# Altium schematic symbol library WS-TASU.SchLib: 11 symbols
Pins are listed as number, name and electrical type; pins without a type are passive.

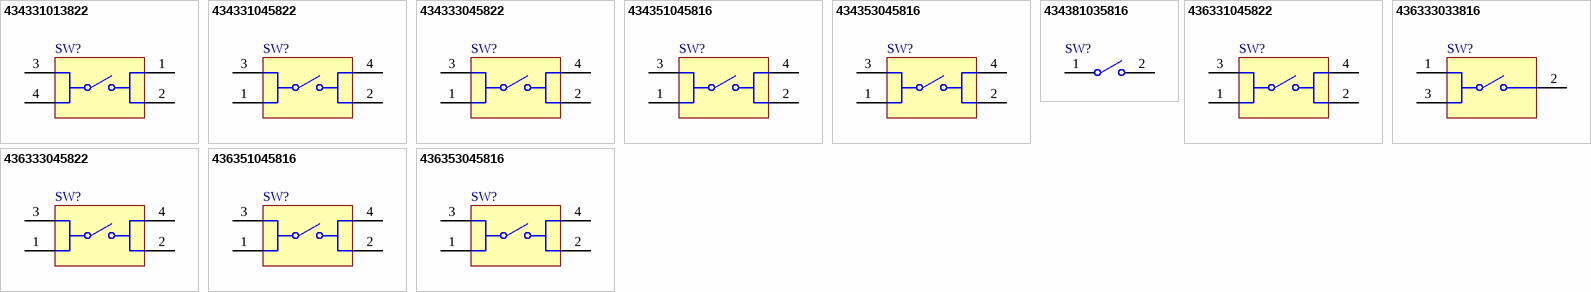
[diagram p0: symbols 434331013822 to 436353045816]

## 434331013822
designator SW?  (value not drawn)
WS-TASU SMT Tact Switch 3.5x2.9mm side push, SPST-NO, H1.35mm, White, 220g; Manufacturer: Wurth Elektronik; Electrical Life: 100000Cycles; Washable: No; Manufacturer Part Number: 434331013822; Category: Tact Switch; Match Code: WS-TASU; ComponentLink1Description: Website Link; ComponentLink1URL: https://www.we-online.com; ComponentLink2Description: Datasheet Link; ComponentLink2URL: https://www.we-online.com/components/products/datasheet/434331013822; Mount: Surface Mount; Operating Temperature Min: -40degC; Operating Temperature Max: 85degC; Packaging: Tape and Reel; Length: 3.5mm; Width: 2.9mm; Height: 1.35mm; Actuator Color: White; Circuit: SPST-NO; Operation Force: 220g
footprint 434331013822
pins: 1, 2, 3, 4

## 434331045822
designator SW?  (value not drawn)
WS-TASU SMT Tact Switch 4.7x3.5mm side push, SPST-NO, H1.65mm, Black, 220g; Manufacturer: Wurth Elektronik; Electrical Life: 100000Cycles; Washable: No; Manufacturer Part Number: 434331045822; Category: Tact Switch; Match Code: WS-TASU; ComponentLink1Description: Website Link; ComponentLink1URL: https://www.we-online.com; ComponentLink2Description: Datasheet Link; ComponentLink2URL: https://www.we-online.com/components/products/datasheet/434331045822; Mount: Surface Mount; Operating Temperature Min: -40degC; Operating Temperature Max: 85degC; Packaging: Tape and Reel; Length: 4.7mm; Width: 3.5mm; Height: 1.65mm; Actuator Color: Black; Circuit: SPST-NO; Operation Force: 220g
footprint 434331045822
pins: 1, 2, 3, 4

## 434333045822
designator SW?  (value not drawn)
WS-TASU J-Bend SMT Tact Switch 4.7x3.5mm side push, SPST-NO, H1.65mm, Black, 220g; Manufacturer: Wurth Elektronik; Electrical Life: 100000Cycles; Washable: No; Manufacturer Part Number: 434333045822; Category: Tact Switch; Match Code: WS-TASU; ComponentLink1Description: Website Link; ComponentLink1URL: https://www.we-online.com; ComponentLink2Description: Datasheet Link; ComponentLink2URL: https://www.we-online.com/components/products/datasheet/434333045822; Mount: Surface Mount; Operating Temperature Min: -40degC; Operating Temperature Max: 85degC; Packaging: Tape and Reel; Length: 4.7mm; Width: 3.5mm; Height: 1.65mm; Actuator Color: Black; Circuit: SPST-NO; Operation Force: 220g
footprint 434333045822
pins: 1, 2, 3, 4

## 434351045816
designator SW?  (value not drawn)
WS-TASU SMT Tact Switch 4.7x3.5mm side push, SPST-NO, H1.65mm, White, 160g; Manufacturer: Wurth Elektronik; Electrical Life: 200000Cycles; Washable: No; Manufacturer Part Number: 434351045816; Category: Tact Switch; Match Code: WS-TASU; ComponentLink1Description: Website Link; ComponentLink1URL: https://www.we-online.com; ComponentLink2Description: Datasheet Link; ComponentLink2URL: https://www.we-online.com/components/products/datasheet/434351045816; Mount: Surface Mount; Operating Temperature Min: -40degC; Operating Temperature Max: 85degC; Packaging: Tape and Reel; Length: 4.7mm; Width: 3.5mm; Height: 1.65mm; Actuator Color: White; Circuit: SPST-NO; Operation Force: 160g
footprint 434351045816
pins: 1, 2, 3, 4

## 434353045816
designator SW?  (value not drawn)
WS-TASU J-Bend SMT Tact Switch 4.7x3.5mm side push, SPST-NO, H1.65mm, White, 160g; Manufacturer: Wurth Elektronik; Electrical Life: 200000Cycles; Washable: No; Manufacturer Part Number: 434353045816; Category: Tact Switch; Match Code: WS-TASU; ComponentLink1Description: Website Link; ComponentLink1URL: https://www.we-online.com; ComponentLink2Description: Datasheet Link; ComponentLink2URL: https://www.we-online.com/components/products/datasheet/434353045816; Mount: Surface Mount; Operating Temperature Min: -40degC; Operating Temperature Max: 85degC; Packaging: Tape and Reel; Length: 4.7mm; Width: 3.5mm; Height: 1.65mm; Actuator Color: White; Circuit: SPST-NO; Operation Force: 160g
footprint 434353045816
pins: 1, 2, 3, 4

## 434381035816
designator SW?  (value not drawn)
WS-TASU SMT Tact Switch 6.2x3mm side push, SPST-NO, H3.5mm, Blue, 160g; Manufacturer: Wurth Elektronik; Electrical Life: 1000000Cycles; Washable: No; Manufacturer Part Number: 434381035816; Category: Tact Switch; Match Code: WS-TASU; ComponentLink1Description: Website Link; ComponentLink1URL: https://www.we-online.com; ComponentLink2Description: Datasheet Link; ComponentLink2URL: https://www.we-online.com/components/products/datasheet/434381035816; Mount: Surface Mount; Operating Temperature Min: -40degC; Operating Temperature Max: 85degC; Packaging: Tape and Reel; Length: 6.2mm; Width: 3mm; Height: 3.5mm; Actuator Color: Blue; Circuit: SPST-NO; Operation Force: 160g
footprint 434381035816
pins: 1, 2

## 436331045822
designator SW?  (value not drawn)
WS-TASU SMT Tact Switch with Boss Design 4.7x3.5mm side push, SPST-NO, H1.65mm, Black, 220g; Manufacturer: Wurth Elektronik; Electrical Life: 100000Cycles; Washable: No; Manufacturer Part Number: 436331045822; Category: Tact Switch; Match Code: WS-TASU; ComponentLink1Description: Website Link; ComponentLink1URL: https://www.we-online.com; ComponentLink2Description: Datasheet Link; ComponentLink2URL: https://www.we-online.com/components/products/datasheet/436331045822; Mount: Surface Mount; Operating Temperature Min: -40degC; Operating Temperature Max: 85degC; Packaging: Tape and Reel; Length: 4.7mm; Width: 3.5mm; Height: 1.65mm; Actuator Color: Black; Circuit: SPST-NO; Operation Force: 220g
footprint 436331045822
pins: 1, 2, 3, 4

## 436333033816
designator SW?  (value not drawn)
WS-TASU J-Bend SMT Tact Switch with Boss Design 4.5 x 3.4mm side push, SPST-NO, H3.3mm, Black, 160g; Manufacturer: Wurth Elektronik; Electrical Life: 100000Cycles; Washable: No; Manufacturer Part Number: 436333033816; Category: Tact Switch; Match Code: WS-TASU; ComponentLink1Description: Website Link; ComponentLink1URL: https://www.we-online.com; ComponentLink2Description: Datasheet Link; ComponentLink2URL: https://www.we-online.com/components/products/datasheet/436333033816; Mount: Surface Mount; Operating Temperature Min: -40degC; Operating Temperature Max: 85degC; Packaging: Tape and Reel; Length: 4.5mm; Width: 3.4mm; Height: 3.3mm; Actuator Color: Black; Circuit: SPST-NO; Operation Force: 160g
footprint 436333033816
pins: 1, 2, 3

## 436333045822
designator SW?  (value not drawn)
WS-TASU J-Bend SMT Tact Switch with Boss Design 4.7x3.5mm side push, SPST-NO, H1.65mm, Black, 220g; Manufacturer: Wurth Elektronik; Electrical Life: 100000Cycles; Washable: No; Manufacturer Part Number: 436333045822; Category: Tact Switch; Match Code: WS-TASU; ComponentLink1Description: Website Link; ComponentLink1URL: https://www.we-online.com; ComponentLink2Description: Datasheet Link; ComponentLink2URL: https://www.we-online.com/components/products/datasheet/436333045822; Mount: Surface Mount; Operating Temperature Min: -40degC; Operating Temperature Max: 85degC; Packaging: Tape and Reel; Length: 4.7mm; Width: 3.5mm; Height: 1.65mm; Actuator Color: Black; Circuit: SPST-NO; Operation Force: 220g
footprint 436333045822
pins: 1, 2, 3, 4

## 436351045816
designator SW?  (value not drawn)
WS-TASU SMT Tact Switch with Boss Design 4.7x3.5mm side push, SPST-NO, H1.65mm, White, 160g; Manufacturer: Wurth Elektronik; Electrical Life: 200000Cycles; Washable: No; Manufacturer Part Number: 436351045816; Category: Tact Switch; Match Code: WS-TASU; ComponentLink1Description: Website Link; ComponentLink1URL: https://www.we-online.com; ComponentLink2Description: Datasheet Link; ComponentLink2URL: https://www.we-online.com/components/products/datasheet/436351045816; Mount: Surface Mount; Operating Temperature Min: -40degC; Operating Temperature Max: 85degC; Packaging: Tape and Reel; Length: 4.7mm; Width: 3.5mm; Height: 1.65mm; Actuator Color: White; Circuit: SPST-NO; Operation Force: 160g
footprint 436351045816
pins: 1, 2, 3, 4

## 436353045816
designator SW?  (value not drawn)
WS-TASU J-Bend SMT Tact Switch with Boss Design 4.7x3.5mm side push, SPST-NO, H1.65mm, White, 160g; Manufacturer: Wurth Elektronik; Electrical Life: 200000Cycles; Washable: No; Manufacturer Part Number: 436353045816; Category: Tact Switch; Match Code: WS-TASU; ComponentLink1Description: Website Link; ComponentLink1URL: https://www.we-online.com; ComponentLink2Description: Datasheet Link; ComponentLink2URL: https://www.we-online.com/components/products/datasheet/436353045816; Mount: Surface Mount; Operating Temperature Min: -40degC; Operating Temperature Max: 85degC; Packaging: Tape and Reel; Length: 4.7mm; Width: 3.5mm; Height: 1.65mm; Actuator Color: White; Circuit: SPST-NO; Operation Force: 160g
footprint 436353045816
pins: 1, 2, 3, 4